# EAGLE library part DC-DC-C- (library suhyouri)
I3A4W008A033V-001-R DC DC CONVERTER 3.3-16.5V 100W TDK-Lambda Americas Inc 구매처 https://www.digikey.kr/product-detail/ko/tdk-lambda-americas-inc/I3A4W008A033V-001-R/285-2720-ND/7321113
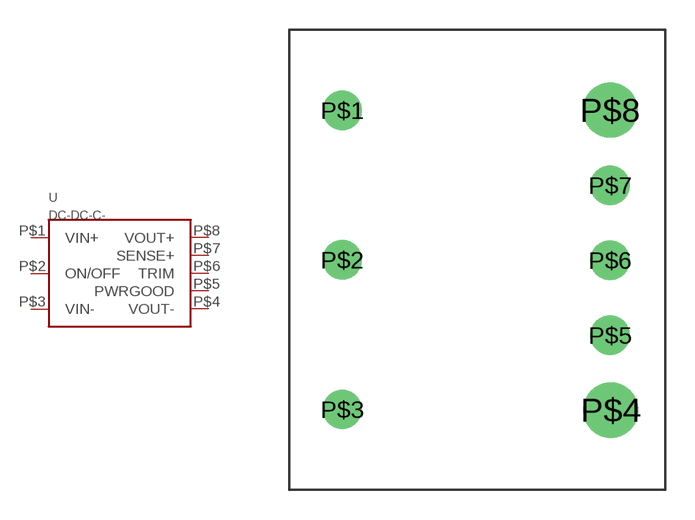
[diagram p1: symbol with the pads of DC-DC-C-I3A4W008A033V-001-R; footprint DC-DC-C-I3A4W008A033V-001-R]

Designator prefix -

## DC-DC-C-I3A4W008A033V-001-R  [DC-DC-C-I3A4W008A033V-001-R]
P$1  VIN+
P$2  ON/OFF
P$3  VIN-
P$4  VOUT-
P$5  PWRGOOD
P$6  TRIM
P$7  SENSE+
P$8  VOUT+

## Footprint DC-DC-C-I3A4W008A033V-001-R (pad centres in mm)
I3A4W008A033V-001-R DC DC CONVERTER 3.3-16.5V 100W TDK-Lambda Americas Inc 구매처 https://www.digikey.kr/product-detail/ko/tdk-lambda-americas-inc/I3A4W008A033V-001-R/285-2720-ND/7321113
drill 1.02 pad 2: P$1 0,0; P$2 0,-7.6; P$3 0,-15.2; P$5 13.6,-11.43; P$6 13.6,-7.62; P$7 13.6,-3.81
drill 1.57 pad 2.8: P$4 13.64,-15.24; P$8 13.6,0